# Altium footprint library SRP7020TA-8R2M.PcbLib: 3 footprints
Each footprint in its own frame and in the unit in brackets; x right, y up, seen from the top. Pads: shape width x height; smd on the part's side, far side on the other; paste and mask are expansions set on the pad; w line width, h text height; cw(c..) or ccw(c..) is an arc to the next point about the centre after c.
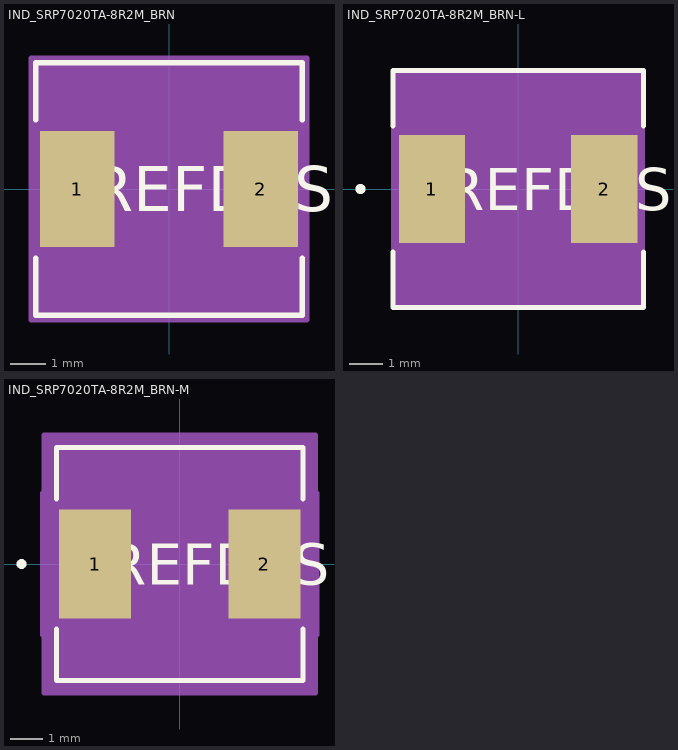
[diagram p0: the footprints below, top view; thin cyan lines are the x and y axes]

## IND_SRP7020TA-8R2M_BRN [mil]
pads (2):
  rect 83x130 smd paste+0 mask+0: 1(-102.5,0) 2(102.5,0)
Top Overlay:
  lines w6: -149,-77.11 -149,-141 149,-141 149,-77.11 ; -149,77.11 -149,141 149,141 149,77.11
  text "REFDES" at -87.5,-25 h50
Mechanical 13:
  circle w0: c0,0 r0
  lines w1: -144,-136 144,-136 144,136 -144,136 -144,-136
  text "RefDes2" at -87.5,-25 h50
Mechanical 15:
  region: -154,-75 -154,75 -154,146 154,146 154,75 154,-75 154,-146 -154,-146
  lines w6: -154,-75 -154,75 ; -154,-75 -154,-75 ; -154,-75 -154,-146 154,-146 154,-75 ; -154,75 -154,75 ; -154,75 -154,146 154,146 154,75 ; 154,-75 154,75 ; 154,-75 154,-75 ; 154,75 154,75
3D body "IND_SRP7020TA-8R2M_BRN.step": height 79.09, standoff 0, extent -144.02,-135.98 144.02,135.98

## IND_SRP7020TA-8R2M_BRN-L [mil]
pads (2):
  rect 79x128 smd paste+0 mask+0: 1(-102.5,0) 2(102.5,0)
Top Overlay:
  circle w6: c-187.5,0 r3
  lines w6: -149,-75.07 -149,-141 149,-141 149,-75.07 ; -149,75.07 -149,141 149,141 149,75.07
  text "REFDES" at -87.5,-25 h50
Mechanical 13:
  circle w0: c0,0 r3
  lines w1: -144,-136 144,-136 144,136 -144,136 -144,-136
  text "RefDes2" at -87.5,-25 h50
Mechanical 15:
  region: -148,-68 -148,68 -148,140 148,140 148,68 148,-68 148,-140 -148,-140
  lines w6: -148,-68 -148,68 ; -148,-68 -148,-68 ; -148,-68 -148,-140 148,-140 148,-68 ; -148,68 -148,68 ; -148,68 -148,140 148,140 148,68 ; 148,-68 148,68 ; 148,-68 148,-68 ; 148,68 148,68
3D body "IND_SRP7020TA-8R2M_BRN.step": height 79.09, standoff 0, extent -144.02,-135.98 144.02,135.98

## IND_SRP7020TA-8R2M_BRN-M [mil]
pads (2):
  rect 87x132 smd paste+0 mask+0: 1(-102.5,0) 2(102.5,0)
Top Overlay:
  circle w6: c-191.5,0 r3
  lines w6: -149,-78.75 -149,-141 149,-141 149,-78.75 ; -149,78.75 -149,141 149,141 149,78.75
  text "REFDES" at -87.5,-25 h50
Mechanical 13:
  circle w0: c0,0 r3
  lines w1: -144,-136 144,-136 144,136 -144,136 -144,-136
  text "RefDes2" at -87.5,-25 h50
Mechanical 15:
  region: -164,-86 -166,-86 -166,86 -164,86 -164,156 164,156 164,86 166,86 166,-86 164,-86 164,-156 -164,-156
  lines w6: -166,-86 -166,86 -164,86 -164,156 164,156 164,86 166,86 166,-86 164,-86 164,-156 -164,-156 -164,-86 -166,-86
3D body "IND_SRP7020TA-8R2M_BRN.step": height 79.09, standoff 0, extent -144.02,-135.98 144.02,135.98